# Altium schematic symbol library Schlib_Infineon.SchLib: 35 symbols
Pins are listed as number, name and electrical type; pins without a type are passive.

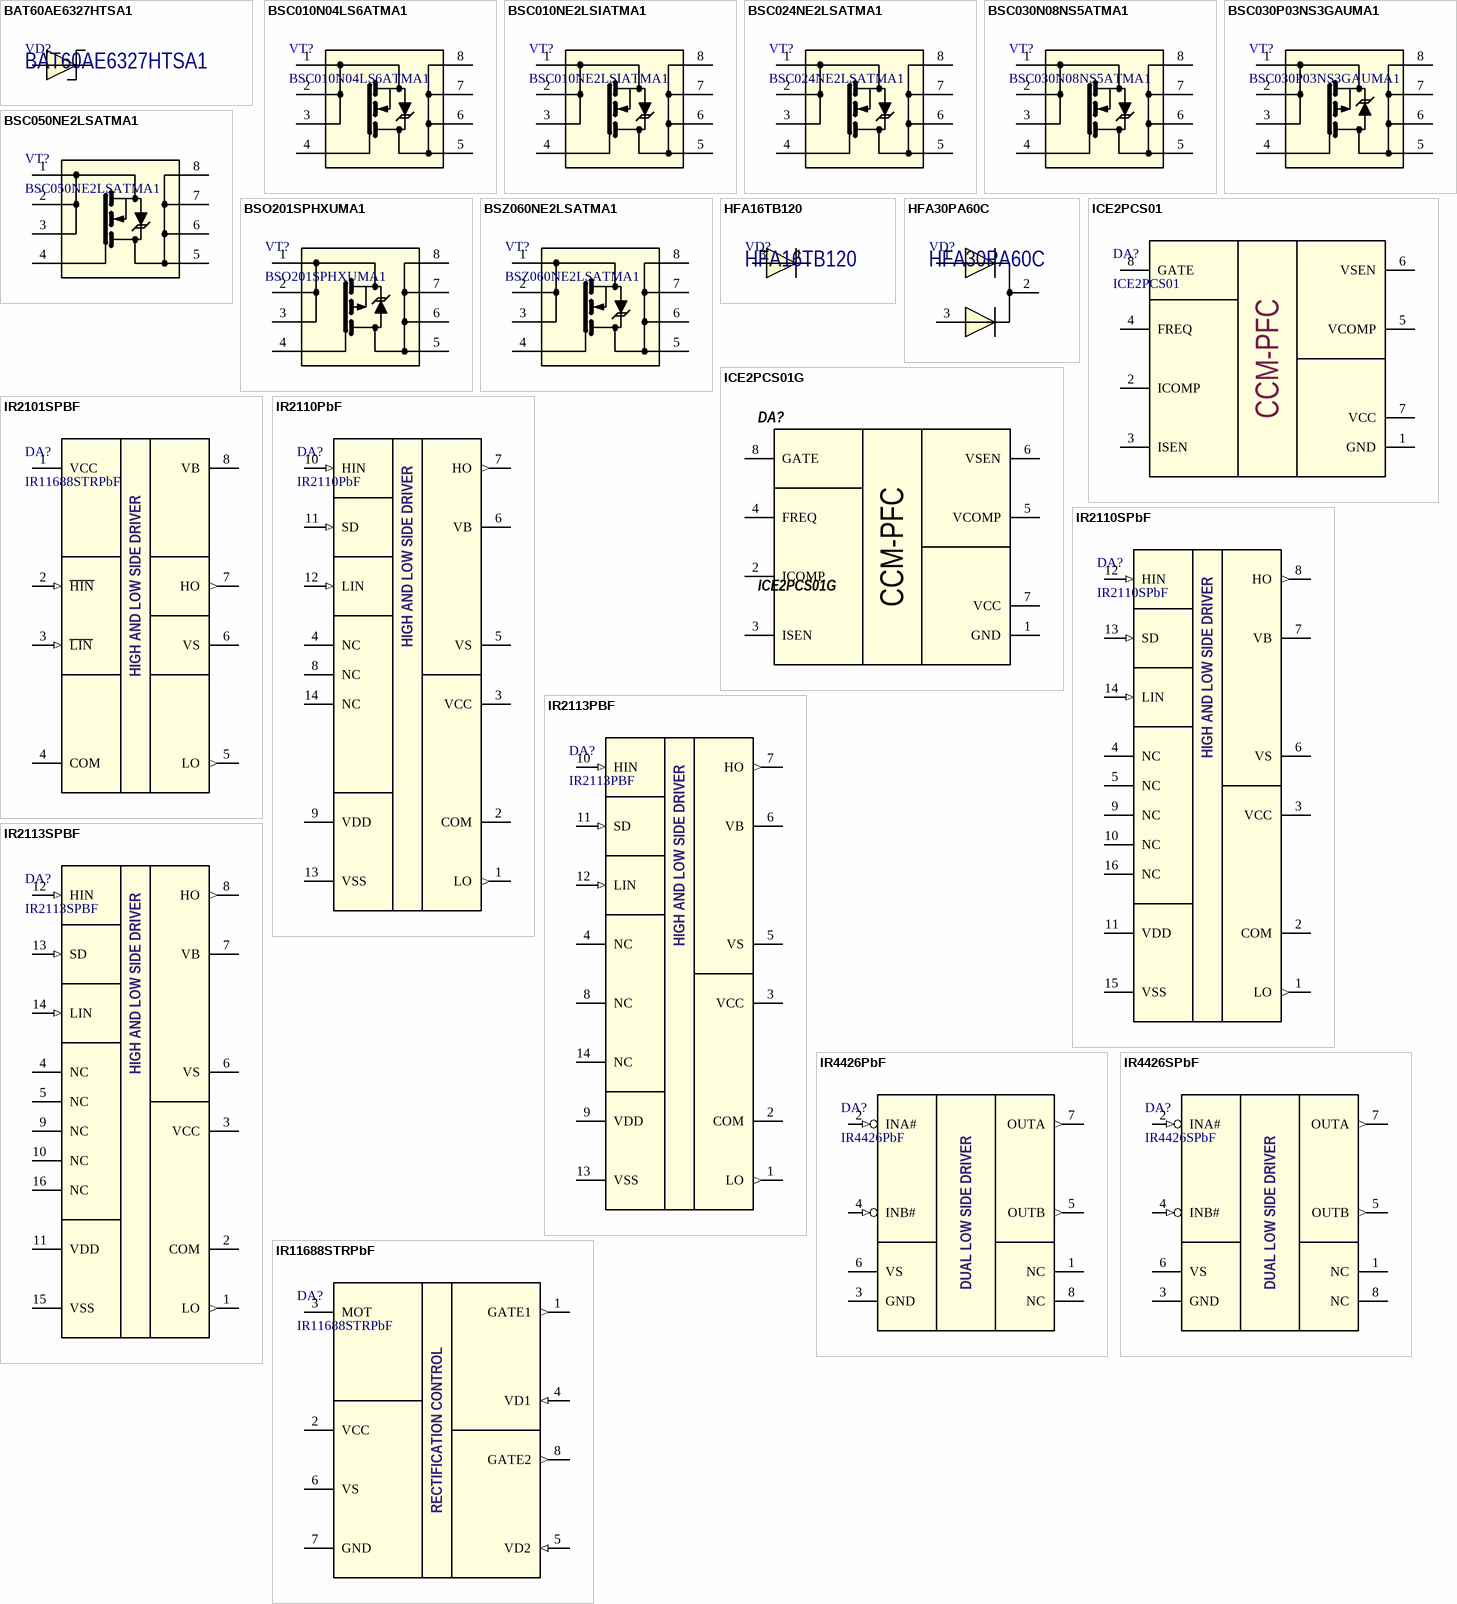
[diagram p0: symbols BAT60AE6327HTSA1 to IR11688STRPbF]

## BAT60AE6327HTSA1
designator VD?
Diode Schottky 10V, 3A; Manufacturer: Infineon; Package: SOD-323; Part Number: BAT60AE6327HTSA1
footprint SOD-323
pins: 1 C, 2 A

## BSC010N04LS6ATMA1
designator VT?
N-Channel MOSFET, 40V, 100A, 1 mOhm; Manufacturer: Infineon Technologies; Part Number: BSC010N04LS6ATMA1; Package: TDSON-8; Device Marking: 10N04LS6
footprint TDSON-8 (TDSON-8, 8-Leads, Body 6,00x5,00mm, Pitch 1,27mm, Thermal Pad 4,1x2,4mm)
pins: 1 S, 2 S, 3 S, 4 G, 5 D, 6 D, 7 D, 8 D

## BSC010NE2LSIATMA1
designator VT?
N-Channel MOSFET, 25V, 100A, 1.05 mOhm; Manufacturer: Infineon Technologies; Part Number: BSC010NE2LSIATMA1; Package: TDSON-8
footprint TDSON-8 (TDSON-8, 8-Leads, Body 6,00x5,00mm, Pitch 1,27mm, Thermal Pad 4,1x2,4mm)
pins: 1 S, 2 S, 3 S, 4 G, 5 D, 6 D, 7 D, 8 D

## BSC024NE2LSATMA1
designator VT?
N-Channel MOSFET, 25V, 100A, 2.4 mOhm; Manufacturer: Infineon Technologies; Part Number: BSC024NE2LSATMA1; Package: TDSON-8
footprint TDSON-8 (TDSON-8, 8-Leads, Body 6,00x5,00mm, Pitch 1,27mm, Thermal Pad 4,1x2,4mm)
pins: 1 S, 2 S, 3 S, 4 G, 5 D, 6 D, 7 D, 8 D

## BSC030N08NS5ATMA1
designator VT?
N-Channel MOSFET, 80V, 100A, 3 mOhm; Manufacturer: Infineon Technologies; Part Number: BSC030N08NS5ATMA1; Package: TDSON-8
footprint TDSON-8 (TDSON-8, 8-Leads, Body 6,00x5,00mm, Pitch 1,27mm, Thermal Pad 4,1x2,4mm)
pins: 1 S, 2 S, 3 S, 4 G, 5 D, 6 D, 7 D, 8 D

## BSC030P03NS3GAUMA1
designator VT?
P-Channel MOSFET, -30V, -100A, 3 mOhm; Manufacturer: Infineon Technologies; Part Number: BSC030P03NS3GAUMA1; Package: TDSON-8
footprint TDSON-8 (TDSON-8, 8-Leads, Body 6,00x5,00mm, Pitch 1,27mm, Thermal Pad 4,1x2,4mm)
pins: 1 S, 2 S, 3 S, 4 G, 5 D, 6 D, 7 D, 8 D

## BSC050NE2LSATMA1
designator VT?
N-Channel MOSFET, 25V, 58A, 5 mOhm; Manufacturer: Infineon Technologies; Part Number: BSC050NE2LSATMA1; Package: TDSON-8
footprint TDSON-8 (TDSON-8, 8-Leads, Body 6,00x5,00mm, Pitch 1,27mm, Thermal Pad 4,1x2,4mm)
pins: 1 S, 2 S, 3 S, 4 G, 5 D, 6 D, 7 D, 8 D

## BSO201SPHXUMA1
designator VT?
P-Channel MOSFET, -20V, -14.9A, 8 mOhm; Manufacturer: Infineon Technologies; Device Marking: 201SP; Part Number: BSO201SPHXUMA1; Package: PG-DSO-8
footprint SOIC-8 (SOIC-8 package)
pins: 1 S, 2 S, 3 S, 4 G, 5 D, 6 D, 7 D, 8 D

## BSZ060NE2LSATMA1
designator VT?
N-Channel MOSFET, 25V, 40A, 6 mOhm; Manufacturer: Infineon Technologies; Part Number: BSZ060NE2LSATMA1; Package: TSDSON-8
footprint PowerFLAT-8L (8-Leads, Body 3.30x3.30mm, Pitch 0.65mm)
pins: 1 S, 2 S, 3 S, 4 G, 5 D, 6 D, 7 D, 8 D

## HFA16TB120
designator VD?
Ultrafast, Soft Recovery Diode 1200V, 16A; Manufacturer: Infineon; Package: TO-220AC; Part Number: HFA16TB120
footprint TO-220-2
pins: 1 C, 3 A

## HFA30PA60C
designator VD?
Ultrafast, Soft Recovery Diode 600V, 15A; Manufacturer: Infineon; Package: TO-247AC; Part Number: HFA30PA60C
footprint TO-247 ((HORIZONTAL, BOTTOM)
footprint TO-247 ((HORIZONTAL, TOP)
footprint TO-247 (VERTICAL)
footprint TO-247_with_TO-220 (VERTICAL)
footprint TO-247_with_dual_TO-220
pins: 1 A1, 2 C, 3 A2

## ICE2PCS01
designator DA?
PFC Controller in Continuous Conduction Mode; Manufacturer: International Rectifier; Part Number: ICE2PCS01; Package: DIP-8
footprint DIP-8P-M01 (Plastic DIP, 8 pin, lead pitch 2.54mm (0.1"), row spacing 7.62mm (0.3").)
footprint DIP-8P-M01_with_SO8 (Plastic DIP, 8 pin, lead pitch 2.54mm (0.1"), row spacing 7.62mm (0.3").)
pins: 1 GND, 2 ICOMP, 3 ISEN, 4 FREQ, 5 VCOMP, 6 VSEN, 7 VCC, 8 GATE
text: CCM-PFC

## ICE2PCS01G
designator DA?
PFC Controller in Continuous Conduction Mode; Manufacturer: Infineon; Part Number: ICE2PCS01G; Package: SOIC-8
footprint SOIC-8 (SOIC-8 package)
footprint SOIC-8_with_DIP-8 (Plastic DIP, 8 pin, lead pitch 2.54mm (0.1"), row spacing 7.62mm (0.3").)
pins: 1 GND, 2 ICOMP, 3 ISEN, 4 FREQ, 5 VCOMP, 6 VSEN, 7 VCC, 8 GATE
text: CCM-PFC

## IR2101SPBF
designator DA?, comment IR11688STRPbF
IC GATE DRVR HALF-BRIDGE; Manufacturer: International Rectifier; Part Number: IR11688STRPbF; Package: SOIC-8
footprint SOIC-8 (SOIC-8 package)
pins: 1 VCC (power), 2 ~{HIN} (in), 3 ~{LIN} (in), 4 COM (power), 5 LO (out), 6 VS, 7 HO (out), 8 VB
text: HIGH AND LOW SIDE DRIVER

## IR2110PbF
designator DA?
HIGH AND LOW SIDE DRIVER; Manufacturer: International Rectifier; Part Number: IR2110PbF; Package: DIP-14
footprint DIP-14P-M02 (Plastic DIP, 14 pin, lead pitch 2.54mm (0.1"), row spacing 7.62mm (0.3"))
pins: 1 LO (out), 2 COM (power), 3 VCC (power), 4 NC (hiz), 5 VS (power), 6 VB (power), 7 HO (out), 8 NC (hiz), 9 VDD (power), 10 HIN (in), 11 SD (in), 12 LIN (in), 13 VSS (power), 14 NC (hiz)

## IR2110SPbF
designator DA?
HIGH AND LOW SIDE DRIVER; Manufacturer: International Rectifier; Part Number: IR2110SPbF; Package: SO-16W
footprint SO-16W (SOIC, 16-Leads, Body 10.29x7.49mm, Pitch 1.27mm, IPC Medium Density)
pins: 1 LO (out), 2 COM (power), 3 VCC (power), 4 NC (hiz), 5 NC (hiz), 6 VS (power), 7 VB (power), 8 HO (out), 9 NC (hiz), 10 NC (hiz), 11 VDD (power), 12 HIN (in), 13 SD (in), 14 LIN (in), 15 VSS (power), 16 NC (hiz)

## IR2113PBF
designator DA?
HIGH AND LOW SIDE DRIVER; Manufacturer: International Rectifier; Part Number: IR2113PBF; Package: DIP-14
footprint DIP-14P-M02 (Plastic DIP, 14 pin, lead pitch 2.54mm (0.1"), row spacing 7.62mm (0.3"))
pins: 1 LO (out), 2 COM (power), 3 VCC (power), 4 NC (hiz), 5 VS (power), 6 VB (power), 7 HO (out), 8 NC (hiz), 9 VDD (power), 10 HIN (in), 11 SD (in), 12 LIN (in), 13 VSS (power), 14 NC (hiz)

## IR2113SPBF
designator DA?
HIGH AND LOW SIDE DRIVER; Manufacturer: International Rectifier; Part Number: IR2113SPBF; Package: SO-16W
footprint SO-16W (SOIC, 16-Leads, Body 10.29x7.49mm, Pitch 1.27mm, IPC Medium Density)
pins: 1 LO (out), 2 COM (power), 3 VCC (power), 4 NC (hiz), 5 NC (hiz), 6 VS (power), 7 VB (power), 8 HO (out), 9 NC (hiz), 10 NC (hiz), 11 VDD (power), 12 HIN (in), 13 SD (in), 14 LIN (in), 15 VSS (power), 16 NC (hiz)

## IR4426PbF
designator DA?
DUAL LOW SIDE DRIVER; Manufacturer: International Rectifier; Part Number: IR4426PbF; Package: SOIC-8
footprint DIP-8P-M01 (Plastic DIP, 8 pin, lead pitch 2.54mm (0.1"), row spacing 7.62mm (0.3").)
footprint DIP-8P-M01_with_SO8 (Plastic DIP, 8 pin, lead pitch 2.54mm (0.1"), row spacing 7.62mm (0.3").)
pins: 1 NC (hiz), 2 INA# (in), 3 GND (power), 4 INB# (in), 5 OUTB (out), 6 VS (power), 7 OUTA (out), 8 NC (hiz)

## IR4426SPbF
designator DA?
DUAL LOW SIDE DRIVER; Manufacturer: International Rectifier; Part Number: IR4426SPbF; Package: SOIC-8
footprint SOIC-8 (SOIC-8 package)
footprint SOIC-8_with_DIP-8 (Plastic DIP, 8 pin, lead pitch 2.54mm (0.1"), row spacing 7.62mm (0.3").)
pins: 1 NC (hiz), 2 INA# (in), 3 GND (power), 4 INB# (in), 5 OUTB (out), 6 VS (power), 7 OUTA (out), 8 NC (hiz)

## IR11688STRPbF
designator DA?
DUAL SYNCHRONOUS RECTIFICATION CONTROL IC; Manufacturer: International Rectifier; Part Number: IR11688STRPbF; Package: SOIC-8
footprint SOIC-8 (SOIC-8 package)
pins: 1 GATE1 (out), 2 VCC (power), 3 MOT, 4 VD1 (in), 5 VD2 (in), 6 VS (power), 7 GND (power), 8 GATE2 (out)
text: RECTIFICATION CONTROL

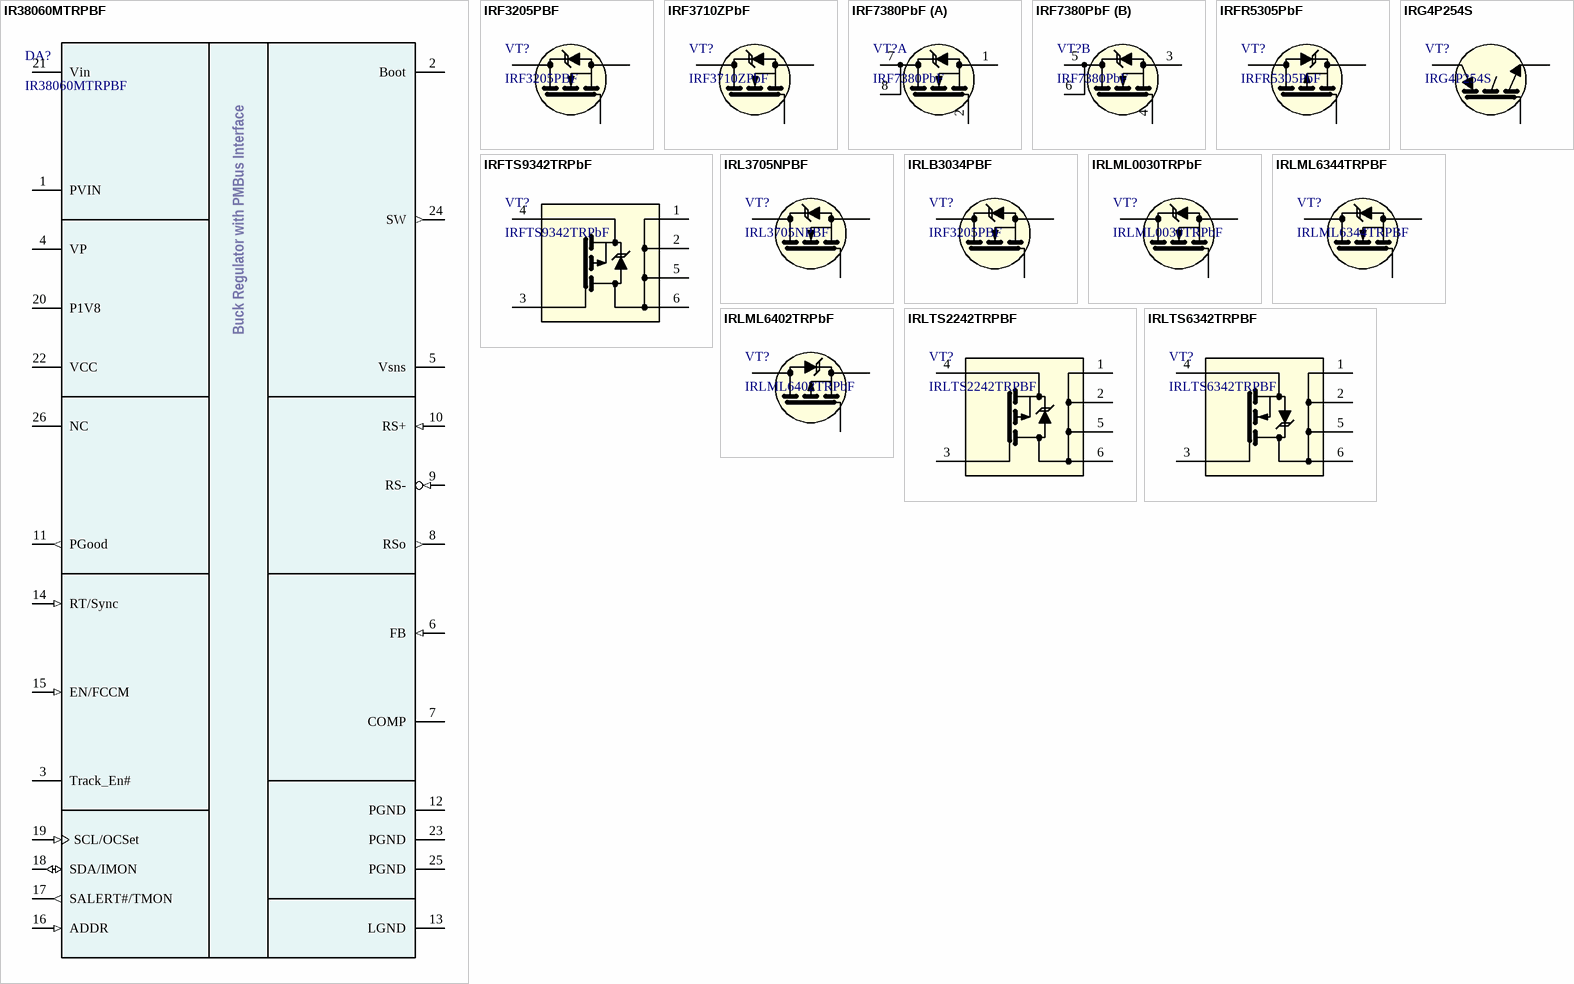
[diagram p1: symbols IR38060MTRPBF to IRLTS6342TRPBF]

## IR38060MTRPBF
designator DA?
6A Single-input Voltage, Synchronous Buck Regulator with PMBus Interface; Manufacturer: International Rectifier; Part Number: IR38060MTRPBF; Package: PowerQFN 5x6
footprint QFN_IR38060
pins: 1 PVIN (power), 2 Boot, 3 Track_En#, 4 VP, 5 Vsns, 6 FB (in), 7 COMP, 8 RSo (out), 9 RS- (in), 10 RS+ (in), 11 PGood (out), 12 PGND (power), 13 LGND (power), 14 RT/Sync (in), 15 EN/FCCM (in), 16 ADDR (in), 17 SALERT#/TMON (out), 18 SDA/IMON (io), 19 SCL/OCSet (in), 20 P1V8 (power), 21 Vin (power), 22 VCC (power), 23 PGND (power), 24 SW (out), 25 PGND (power), 26 NC (hiz)
text: Buck Regulator with PMBus Interface

## IRF3205PBF
designator VT?
N-Channel MOSFET,  55V, 110A; Manufacturer: International Rectifier; Part Number: IRF3205PBF; Package: TO220-3
footprint TO-220-3
footprint TO-220-3 (hole mounting)
footprint TO-220A-3
footprint TO-220A-3 (HORIZONTAL)
pins: 1 G, 2 D, 3 S

## IRF3710ZPbF
designator VT?
N-Channel MOSFET,  100V, 59A; Manufacturer: International Rectifier; Part Number: IRF3710ZPbF; Package: TO220-3
footprint TO-220-3
footprint TO-220-3 (hole mounting)
footprint TO-220A-3
footprint TO-220A-3 (HORIZONTAL)
pins: 1 G, 2 D, 3 S

## IRF7380PbF
designator VT?
N-Channel MOSFET, 80V, 3.6A; Manufacturer: Infineon Technologies; Part Number: IRF7380PbF; Package: SO-8
footprint SOIC-8 (SOIC-8 package)
part A pins: 1 S1, 2 G1, 7 D1, 8 D1
part B pins: 3 S2, 4 G2, 5 D2, 6 D2

## IRFR5305PbF
designator VT?
P-Channel MOSFET, 55V, 31A; Manufacturer: Infineon Technologies; Part Number: IRFR5305PbF; Package: TO-252AA
footprint TO-252-3 (D-PAK, 3-Pads, Body 6.15x6.66mm (max), IPC Medium Density)
pins: 1 G, 2 D, 3 S

## IRFTS9342TRPbF
designator VT?
P-Channel MOSFET, -30V, -5.8A, 66 mOhm; Manufacturer: International Rectifier; Part Number: IRFTS9342TRPbF; Package: TSOP-6
footprint TSOP-6 (TSOP-6 package)
pins: 1 D, 2 D, 3 G, 4 S, 5 D, 6 D

## IRG4P254S
designator VT?
Standard Speed IGBT, N-channel, VCES = 250V, IC = 55A; Manufacturer: Infineon Technologies; Part Number: IRG4P254S; Package: TO-247AC
footprint TO-247 ((HORIZONTAL, BOTTOM)
footprint TO-247 ((HORIZONTAL, TOP)
footprint TO-247 (VERTICAL)
footprint TO-247_with_TO-220 (VERTICAL)
pins: 1 G, 2 C, 3 E

## IRL3705NPBF
designator VT?
N-Channel MOSFET,  55V, 89A; Manufacturer: International Rectifier; Part Number: IRL3705NPBF; Package: TO220-3
footprint TO-220-3
footprint TO-220-3 (hole mounting)
footprint TO-220A-3
footprint TO-220A-3 (HORIZONTAL)
pins: 1 G, 2 D, 3 S

## IRLB3034PBF
designator VT?, comment IRF3205PBF
N-Channel MOSFET,  40V, 195A Rds=0.0017Ohm @ 195A, 10V; Manufacturer: International Rectifier; Part Number: IRF3205PBF; Package: TO220-3
footprint TO-220-3
footprint TO-220-3 (hole mounting)
footprint TO-220A-3
footprint TO-220A-3 (HORIZONTAL)
pins: 1 G, 2 D, 3 S

## IRLML0030TRPbF
designator VT?
N-Channel MOSFET, 30V, 5.3A; Manufacturer: Infineon Technologies; Part Number: IRLML0030TRPbF; Package: SOT23-3
footprint SOT23-3 (SOT23, 6-Leads, Body 2.90x2.80mm, Pitch 0.95mm, IPC Medium Density)
pins: 1 G, 2 S, 3 D

## IRLML6344TRPBF
designator VT?
N-Channel MOSFET, 30V, 5A; Manufacturer: Infineon Technologies; Part Number: IRLML6344TRPBF; Package: SOT23-3
footprint SOT23-3 (SOT23, 6-Leads, Body 2.90x2.80mm, Pitch 0.95mm, IPC Medium Density)
pins: 1 G, 2 S, 3 D

## IRLML6402TRPbF
designator VT?
P-Channel MOSFET, 20V, 3.7A; Manufacturer: Infineon Technologies; Part Number: IRLML6402TRPbF; Package: SOT23-3
footprint SOT23-3 (SOT23, 6-Leads, Body 2.90x2.80mm, Pitch 0.95mm, IPC Medium Density)
pins: 1 G, 2 S, 3 D

## IRLTS2242TRPBF
designator VT?
N-Channel MOSFET, -20V, -6.9A, 55 mOhm; Manufacturer: International Rectifier; Part Number: IRLTS2242TRPBF; Package: TSOP-6
footprint TSOP-6 (TSOP-6 package)
pins: 1 D, 2 D, 3 G, 4 S, 5 D, 6 D

## IRLTS6342TRPBF
designator VT?
N-Channel MOSFET, 30V, 8.3A, 22 mOhm; Manufacturer: International Rectifier; Part Number: IRLTS6342TRPBF; Package: TSOP-6
footprint TSOP-6 (TSOP-6 package)
pins: 1 D, 2 D, 3 G, 4 S, 5 D, 6 D